# Altium schematic symbol library SCH - MCU - STM32 - ST MICROELECTRONICS STM32F410T(8-B)YX WLCSP36.SchLib: 1 symbol
Pins are listed as number, name and electrical type; pins without a type are passive.

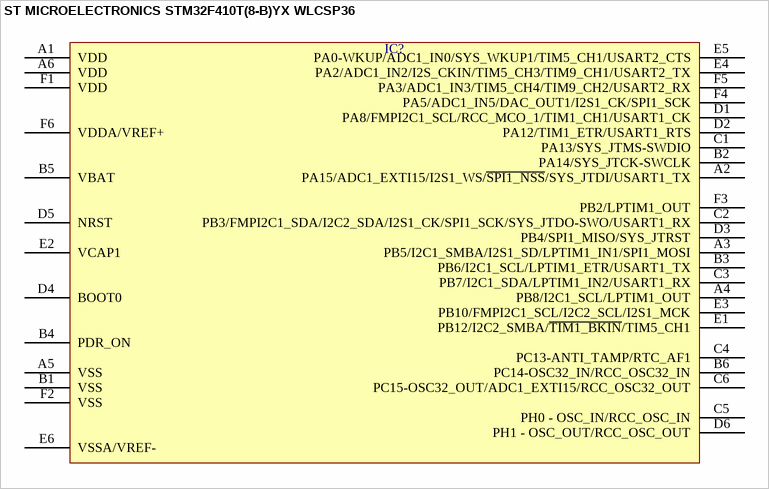
[diagram p0: symbol ST MICROELECTRONICS STM32F410T(8-B)YX WLCSP36]

## ST MICROELECTRONICS STM32F410T(8-B)YX WLCSP36
designator IC?  (value not drawn)
pins: A1 VDD, A2 PA15/ADC1_EXTI15/I2S1_WS/~{SPI1_NSS}/SYS_JTDI/USART1_TX, A3 PB5/I2C1_SMBA/I2S1_SD/LPTIM1_IN1/SPI1_MOSI, A4 PB8/I2C1_SCL/LPTIM1_OUT, A5 VSS, A6 VDD, B1 VSS, B2 PA14/SYS_JTCK-SWCLK, B3 PB6/I2C1_SCL/LPTIM1_ETR/USART1_TX, B4 PDR_ON, B5 VBAT, B6 PC14-OSC32_IN/RCC_OSC32_IN, C1 PA13/SYS_JTMS-SWDIO, C2 PB3/FMPI2C1_SDA/I2C2_SDA/I2S1_CK/SPI1_SCK/SYS_JTDO-SWO/USART1_RX, C3 PB7/I2C1_SDA/LPTIM1_IN2/USART1_RX, C4 PC13-ANTI_TAMP/RTC_AF1, C5 PH0 - OSC_IN/RCC_OSC_IN, C6 PC15-OSC32_OUT/ADC1_EXTI15/RCC_OSC32_OUT, D1 PA8/FMPI2C1_SCL/RCC_MCO_1/TIM1_CH1/USART1_CK, D2 PA12/TIM1_ETR/USART1_RTS, D3 PB4/SPI1_MISO/SYS_JTRST, D4 BOOT0, D5 NRST, D6 PH1 - OSC_OUT/RCC_OSC_OUT, E1 PB12/I2C2_SMBA/~{TIM1_BKIN}/TIM5_CH1, E2 VCAP1, E3 PB10/FMPI2C1_SCL/I2C2_SCL/I2S1_MCK, E4 PA2/ADC1_IN2/I2S_CKIN/TIM5_CH3/TIM9_CH1/USART2_TX, E5 PA0-WKUP/ADC1_IN0/SYS_WKUP1/TIM5_CH1/USART2_CTS, E6 VSSA/VREF-, F1 VDD, F2 VSS, F3 PB2/LPTIM1_OUT, F4 PA5/ADC1_IN5/DAC_OUT1/I2S1_CK/SPI1_SCK, F5 PA3/ADC1_IN3/TIM5_CH4/TIM9_CH2/USART2_RX, F6 VDDA/VREF+